# EAGLE library part 1X8_CLEAN (library ModernDevice)
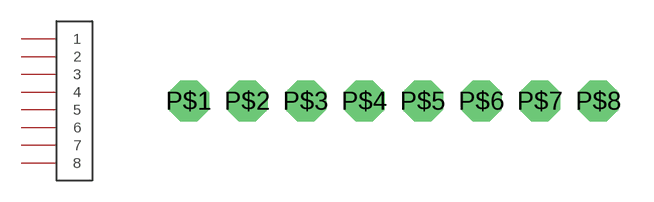
[diagram p3: symbol with the pads of 1X8_CLEAN; footprint 1X8_CLEAN]

Designator prefix -

## 1X8_CLEAN  [1X8_CLEAN]
P$1  1
P$2  2
P$3  3
P$4  4
P$5  5
P$6  6
P$7  7
P$8  8

## Footprint 1X8_CLEAN (pad centres in mm)
drill 1.016 pad 1.778 octagon: P$1 -8.89,0; P$2 -6.35,0; P$3 -3.81,0; P$4 -1.27,0; P$5 1.27,0; P$6 3.81,0; P$7 6.35,0; P$8 8.89,0